# Altium integrated library 10129381-912001BLF.IntLib: 1 symbol
Pins are listed as number, name and electrical type; pins without a type are passive.

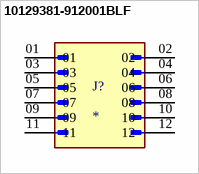
[diagram p0: symbol 10129381-912001BLF]

## 10129381-912001BLF
designator J?
EconoStikâ„¢, Board to Board connector, Unshrouded Vertical Header, Through Hole, Double Row, 12 Positions, 2.54 mm (0.100in) Pitch.; MF: Amphenol ICC (FCI); MP: 10129381-912001BLF; Check_prices: https://www.snapeda.com/parts/10129381-912001BLF/Amphenol+FCI/view-part/?ref=eda; SnapEDA_Link: https://www.snapeda.com/parts/10129381-912001BLF/Amphenol+FCI/view-part/?ref=snap; Value: *; Purchase-URL: https://pricing.snapeda.com/search/part/10129381-912001BLF/?ref=eda; Package: None; Digi-Key_Part_Number: 10129381-912001BLF-ND
footprint AMPHENOL_10129381-912001BLF
pins: 01, 02, 03, 04, 05, 06, 07, 08, 09, 10, 11, 12